# Altium footprint library PCB库.PcbLib: 37 footprints (part 3 of 3)
Each footprint in its own frame and in the unit in brackets; x right, y up, seen from the top. Pads: shape width x height; smd on the part's side, far side on the other; paste and mask are expansions set on the pad; w line width, h text height; cw(c..) or ccw(c..) is an arc to the next point about the centre after c.
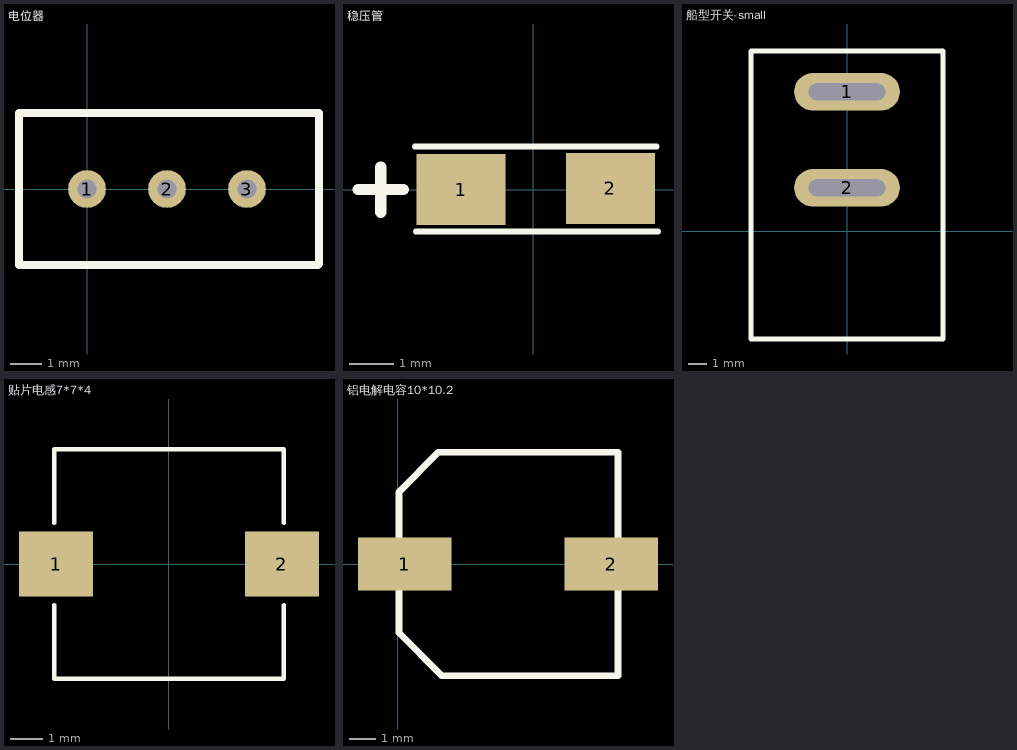
[diagram p2: the footprints below, top view; thin cyan lines are the x and y axes]

## 电位器 [mm]
pads (3):
  round 1.2 hole 0.6: 1(0,0) 2(2.54,0) 3(5.08,0)
Top Overlay:
  lines w0.254: -2.159,-2.413 7.341,-2.413 ; -2.159,-2.387 -2.159,2.413 7.341,2.413 ; 7.366,-2.387 7.366,2.413

## 稳压管 [mm]
pads (2):
  rect 2x1.6 smd: 1(-1.626,0) 2(1.727,0.025)
Top Overlay:
  lines w0.127: -2.667,0.965 2.769,0.965 ; -2.642,-0.94 2.794,-0.94
  lines w0.254: -3.937,0 -2.921,0 ; -3.429,-0.508 -3.429,0.508

## 船型开关-small [mil]
pads (2):
  oval 220x78.74 hole 35 slot 160 at 0 deg: 1(0,290) 2(0,90)
Top Overlay:
  lines w10: -200,-225 -200,375 200,375 200,-225 -200,-225

## 贴片电感7*7*4 [mm]
pads (2):
  rect 2.3x2 smd: 1(-3.5,0) 2(3.5,0)
Top Overlay:
  lines w0.127: -3.556,-1.27 -3.556,-3.556 0,-3.556 3.556,-3.556 3.556,-1.27 ; -3.556,1.27 -3.556,3.556 0,3.556 3.556,3.556 3.556,1.27

## 铝电解电容10*10.2 [mm]
pads (2):
  rect 3.5x2 smd: 1(0.254,0) 2(8.001,0)
Top Overlay:
  lines w0.254: 0.037,-2.577 0.037,-2.01 0.037,2.704 1.524,4.191 8.255,4.191 8.255,-4.191 1.651,-4.191 0.037,-2.577